# Altium footprint library PCB Passives.PcbLib: 50 footprints (part 2 of 4)
Each footprint in its own frame and in the unit in brackets; x right, y up, seen from the top. Pads: shape width x height; smd on the part's side, far side on the other; paste and mask are expansions set on the pad; w line width, h text height; cw(c..) or ccw(c..) is an arc to the next point about the centre after c.
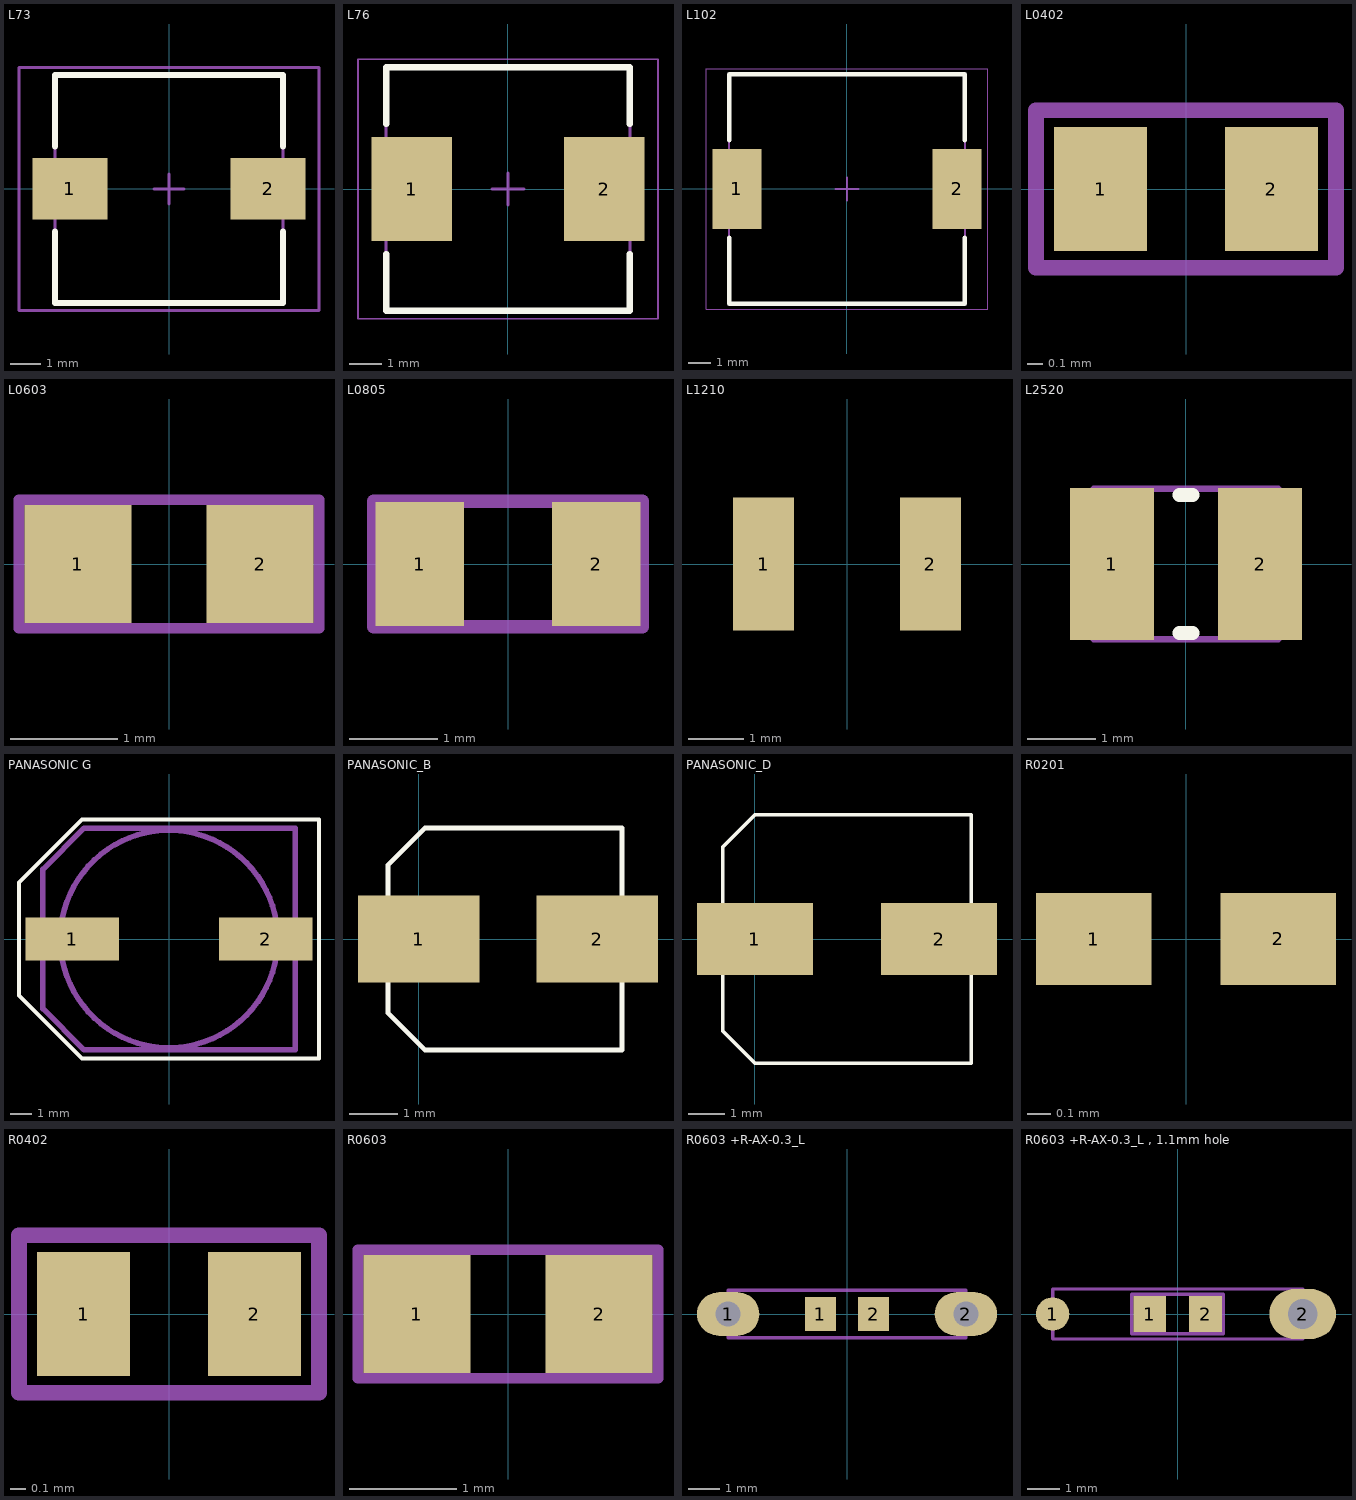
[diagram p1: the footprints below, top view; thin cyan lines are the x and y axes]

## L73 [mm] "Inductor 7.3x7.3mm"
height 3.55
pads (2):
  rect 2.5x2.05 smd: 1(-3.3,0) 2(3.3,0)
Top Overlay:
  lines w0.2: -3.8,-1.425 -3.8,-3.8 3.8,-3.8 3.8,-1.425 ; -3.8,1.425 -3.8,3.8 3.8,3.8 3.8,1.425
Mechanical 13:
  lines w0.1: -3.8,-3.8 3.8,-3.8 3.8,3.8 -3.8,3.8 -3.8,-3.8
Mechanical 15:
  lines w0.1: -0.5,0 0.5,0 ; 0,-0.5 0,0.5 ; -5,-4.05 5,-4.05 5,4.05 -5,4.05 -5,-4.05
3D body "User Library-Murata_4600.step": height 4.55, standoff 0, extent -3.764,-3.65 3.664,3.65

## L76 [mm] "Inductor 7.6x7.6 mm"
height 3.55
pads (2):
  rect 2.5x3.25 smd: 1(-3,0) 2(3,0)
Top Overlay:
  lines w0.2: -3.8,-2.025 -3.8,-3.8 3.8,-3.8 3.8,-2.025 ; -3.8,2.025 -3.8,3.8 3.8,3.8 3.8,2.025
Mechanical 13:
  lines w0.1: -3.8,-3.8 -3.8,3.8 3.8,3.8 3.8,-3.8 -3.8,-3.8
Mechanical 15:
  lines w0.05: -4.675,-4.05 -4.675,4.05 4.675,4.05 4.675,-4.05 -4.675,-4.05
  lines w0.1: -0.5,0 0.5,0 ; 0,-0.5 0,0.5
3D body "dra73.STEP": height 3.56, standoff 0, extent -3.8,-3.8 3.8,3.8

## L102 [mm] "Inductor 10.2x10.2 mm"
height 4
pads (2):
  rect 2.2x3.56 smd: 1(-4.9,0) 2(4.9,0)
Top Overlay:
  lines w0.2: -5.25,-2.18 -5.25,-5.1 5.25,-5.1 5.25,-2.18 ; -5.25,2.18 -5.25,5.1 5.25,5.1 5.25,2.18
Mechanical 13:
  lines w0.1: -5.25,-5.1 5.25,-5.1 5.25,5.1 -5.25,5.1 -5.25,-5.1
Mechanical 15:
  lines w0.05: -6.275,-5.35 6.275,-5.35 6.275,5.35 -6.275,5.35 -6.275,-5.35
  lines w0.1: -0.5,0 0.5,0 ; 0,-0.5 0,0.5
3D body "Coilcraft-MSS1038.step": height 4, standoff 0, extent -5.15,-5.2 5.15,5

## L0402 [mm] "0402 inductor"
pads (2):
  rect 0.6x0.8 smd: 1(-0.55,0) 2(0.55,0)
Mechanical 29:
  lines w0.1: -0.965,-0.508 0.965,-0.508 0.965,0.508 -0.965,0.508 -0.965,-0.508
  text ".Designator" at -0.787,-0.279 h0.6
3D body "User Library-Chip Inductor(1).step": height 0.49, standoff -0.01, extent -0.5,-0.3 0.5,0.3

## L0603 [mm] "0603 inductor"
pads (2):
  rect 1x1.1 smd: 1(-0.85,0) 2(0.85,0)
Mechanical 29:
  lines w0.1: -1.4,-0.6 -1.4,0.6 1.4,0.6 1.4,-0.6 -1.4,-0.6
  text ".Designator" at -1.1,-0.2 h0.6
3D body "User Library-Chip Inductor.step": height 0.79, standoff -0.01, extent -0.8,-0.5 0.8,0.45

## L0805 [mm] "0805 inductor"
pads (2):
  rect 1x1.4 smd: 1(-1,0) 2(1,0)
Mechanical 29:
  lines w0.15: -1.524,-0.711 -1.524,0.711 1.524,0.711 1.524,-0.711 -1.524,-0.711
  text ".Designator" at -0.635,-0.254 h0.51
3D body "User Library-Chip Inductor(2).step": height 0.94, standoff -0.01, extent -1,-0.6 1,0.6

## L1210 [mm] "1210 inductor"
pads (2):
  rect 1.1x2.4 smd: 1(-1.5,0) 2(1.5,0)
3D body "User Library-Chip Inductor(3).step": height 2, standoff 0, extent -1.25,-1.1 1.25,1.1

## L2520 [mm] "Chip Inductor, 2-Leads, Body 2,50x2,00mm, IPC Medium Density"
height 1.2
pads (2):
  rect 1.23x2.22 smd: 1(-1.085,0) 2(1.085,0)
Top Overlay:
  lines w0.2: -0.1,-1.01 0.1,-1.01 ; -0.1,1.01 0.1,1.01
Mechanical 13:
  lines w0.1: -1.35,-1.1 -1.35,1.1 1.35,1.1 1.35,-1.1 -1.35,-1.1
3D body "INDC2520X12N.step": height 1.2, standoff 0, extent -1.35,-1.1 1.35,1.1

## PANASONIC G [mm]
pads (2):
  rect 4.3x2 smd: 1(-4.45,0) 2(4.45,0)
Top Overlay:
  lines w0.2: -6.9,-2.6 -4,-5.5 6.9,-5.5 6.9,5.5 -4,5.5 -6.9,2.6 -6.9,-2.6
Mechanical 13:
  circle w0.254: c0,0 r5
  lines w0.254: -5.8,-3.2 -5.8,3.2 -3.9,5.1 5.8,5.1 5.8,-5.1 -3.9,-5.1 -5.8,-3.2
3D body "User Library-cap_10x10x10-1.STEP": height 10.5, standoff 0, extent -5.901,-5.25 5.899,5.25

## PANASONIC_B [mm]
pads (2):
  rect 2.5x1.8 smd: 1(0,0) 2(3.683,0)
Top Overlay:
  lines w0.1: -0.635,-1.524 0.127,-2.286 4.191,-2.286 4.191,2.286 0.127,2.286 -0.635,1.524 -0.635,-1.524
3D body "CAPAE-D4.0x5.4.stp": height 5.5, standoff 0, extent -0.95,-2.25 4.55,2.25

## PANASONIC_D [mm]
pads (2):
  rect 3.2x2 smd: 1(0,0) 2(5.08,0)
Top Overlay:
  lines w0.1: -0.889,-2.54 0,-3.429 5.969,-3.429 5.969,3.429 0,3.429 -0.889,2.54 -0.889,-2.54
3D body "CAPAE-D6.3x5.4.stp": height 5.5, standoff 0, extent -1.35,-3.4 6.45,3.4

## R0201 [mm] "0201 resistor"
pads (2):
  rect 0.5x0.4 smd: 1(-0.4,0) 2(0.4,0)
3D body "User Library-SMD RESISTOR-1.step": height 0.22, standoff -0.01, extent -0.3,-0.15 0.3,0.15

## R0402 [mm] "0402 resistor"
pads (2):
  rect 0.6x0.8 smd: 1(-0.55,0) 2(0.55,0)
Mechanical 29:
  lines w0.1: -0.965,-0.508 -0.965,0.508 0.965,0.508 0.965,-0.508 -0.965,-0.508
  text ".Designator" at -0.787,-0.279 h0.6
3D body "RES_0402.step": height 0.34, standoff -0.01, extent -0.5,-0.246 0.5,0.254

## R0603 [mm] "0603 resistor"
pads (2):
  rect 1x1.1 smd: 1(-0.85,0) 2(0.85,0)
Mechanical 29:
  lines w0.1: -1.4,-0.6 -1.4,0.6 1.4,0.6 1.4,-0.6 -1.4,-0.6
  text ".Designator" at -1.2,-0.2 h0.6
3D body "RES_0603.step": height 0.45, standoff -0.01, extent -0.8,-0.4 0.8,0.4

## R0603 +R-AX-0.3_L [mm] "0603 resistor with THT pads"
pads (4):
  oval 2x1.4 hole 0.8: 1(-3.81,0) 2(3.81,0)
  rect 1x1.1 smd: 1(-0.85,0) 2(0.85,0)
Mechanical 29:
  lines w0.102: -3.81,-0.762 3.81,-0.762 3.81,0.762 -3.81,0.762 -3.81,-0.762
  text ".Designator" at -1.2,-0.2 h0.6
3D body "RES_0603.step": height 0.45, standoff -0.01, extent -0.8,-0.4 0.8,0.4

## R0603 +R-AX-0.3_L , 1.1mm hole [mm] "0603 resistor with THT pads"
pads (4):
  round 1.016 all layers, no hole: 1(-3.81,0)
  rect 1x1.1 smd: 1(-0.85,0) 2(0.85,0)
  oval 2.032x1.524 hole 0.9: 2(3.81,0)
Mechanical 29:
  lines w0.1: -1.4,-0.6 -1.4,0.6 1.4,0.6 1.4,-0.6 -1.4,-0.6
  lines w0.102: -3.81,-0.762 -3.81,0.762 3.81,0.762 3.81,-0.762 -3.81,-0.762
  text ".Designator" at -1.2,-0.2 h0.6
3D body "RES_0603.step": height 0.45, standoff -0.01, extent -0.8,-0.4 0.8,0.4